# EAGLE library part IC-PV (library encoders)
iC-Haus : iC-PV BATTERY-BUFFERED HALL-MULTITURN ENCODER
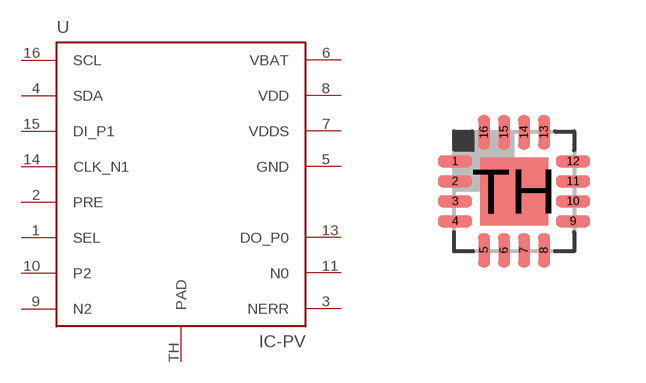
[diagram p3: symbol with the pads of QFN16; footprint QFN16]

Designator prefix U

## IC-PV (MF: iC-Haus; MPN: iC-PV; REVIEWED: NO - NEEDS REVIEW; TESTED: NO - NEEDS TEST)  [QFN16]
1  SEL  in
2  PRE  in
3  NERR  oc
4  SDA
5  GND  sup
6  VBAT  pas
7  VDDS  pas
8  VDD  pas
9  N2  out
10  P2  out
11  N0
13  DO_P0  out
14  CLK_N1
15  DI_P1
16  SCL
TH  PAD  pas

## Footprint QFN16 (pad centres in mm)
RTE (S-PQFP-N16) 3x3 mm Source: www.ti.com .. tpa6132a2 direct path stereo $.65.pdf Copied from Eagle's texas.lbr
smd 0.85 x 0.3: 1 -1.475,0.75; 2 -1.475,0.25; 3 -1.475,-0.25; 4 -1.475,-0.75; 9 1.475,-0.75; 10 1.475,-0.25; 11 1.475,0.25; 12 1.475,0.75
smd 0.3 x 0.85: 5 -0.75,-1.475; 6 -0.25,-1.475; 7 0.25,-1.475; 8 0.75,-1.475; 13 0.75,1.475; 14 0.25,1.475; 15 -0.25,1.475; 16 -0.75,1.475
smd 1.7 x 1.7: TH 0,0